# Altium integrated library DO3316.IntLib: 1 symbol
Pins are listed as number, name and electrical type; pins without a type are passive.

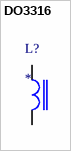
[diagram p0: symbol DO3316]

## DO3316
designator L?
PDF: http://www.coilcraft.com/do3316p.cfm; ID: *; PRICE: *; BUY_LINK: *
footprint DO3316P
pins: 1, 2